# Altium footprint library Connectors.PcbLib: 22 footprints (part 2 of 2)
Each footprint in its own frame and in the unit in brackets; x right, y up, seen from the top. Pads: shape width x height; smd on the part's side, far side on the other; paste and mask are expansions set on the pad; w line width, h text height; cw(c..) or ccw(c..) is an arc to the next point about the centre after c.
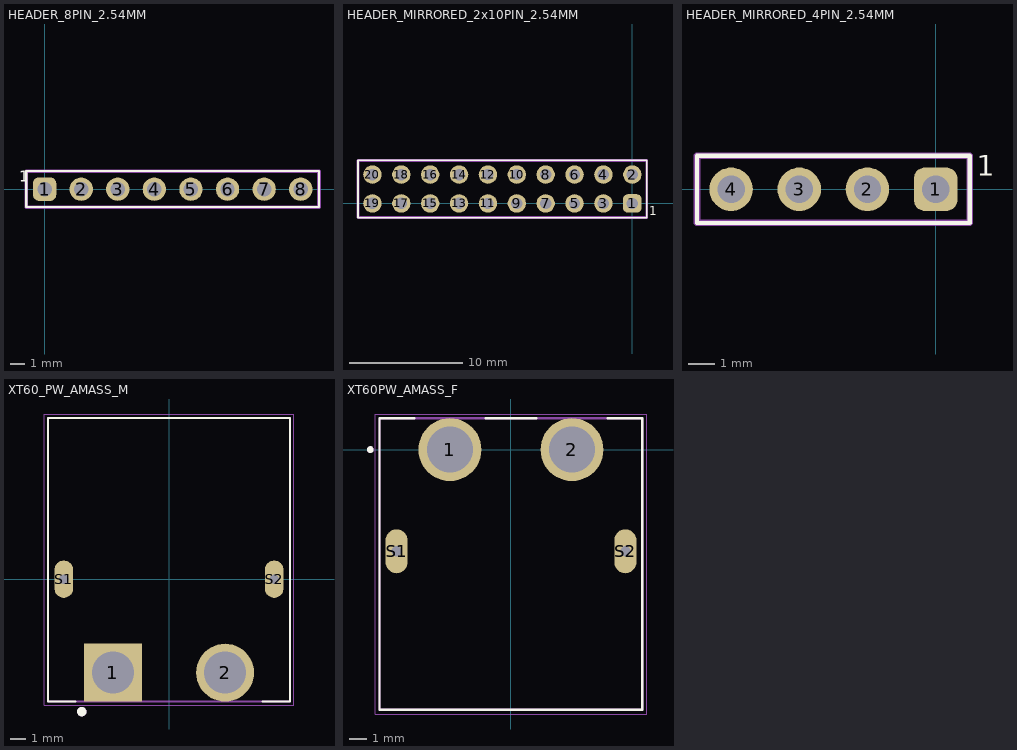
[diagram p1: the footprints below, top view; thin cyan lines are the x and y axes]

## HEADER_8PIN_2.54MM [mm]
pads (8):
  rrect50% 1.62x1.62 hole 1.02: 1(0,0)
  round 1.62 hole 1.02: 2(2.54,0) 3(5.08,0) 4(7.62,0)
  round 1.62 hole 1: 5(10.16,0) 6(12.7,0) 7(15.24,0) 8(17.78,0)
Top Overlay:
  lines w0.152: -1.27,-1.25 19.05,-1.25 19.05,1.25 -1.27,1.25 -1.27,-1.25
  text "1" at -1.778,0.508 h0.76
Mechanical 1:
  lines w0.254: -1.27,-1.25 19.05,-1.25 19.05,1.25 -1.27,1.25 -1.27,-1.25
3D body "c-534237-6-s-3d.stp": height 8.65, standoff -2.91, extent -1.27,-1.778 19.05,1.778

## HEADER_MIRRORED_2x10PIN_2.54MM [mm]
pads (20):
  rrect50% 1.62x1.62 hole 1: 1(0,0)
  round 1.62 hole 1: 2(0,2.54) 3(-2.54,0) 4(-2.54,2.54) 5(-5.08,0) 6(-5.08,2.54) 7(-7.62,0) 8(-7.62,2.54) 9(-10.16,0) 10(-10.16,2.54) 11(-12.7,0) 12(-12.7,2.54)
  round 1.62 hole 1.02: 13(-15.24,0) 14(-15.24,2.54) 15(-17.78,0) 16(-17.78,2.54) 17(-20.32,0) 18(-20.32,2.54) 19(-22.86,0) 20(-22.86,2.54)
Top Overlay:
  lines w0.152: -24.13,-1.25 1.27,-1.25 1.27,3.79 -24.13,3.79 -24.13,-1.25
  text "1" at 1.499,-1.041 h0.76
Mechanical 1:
  lines w0.254: -24.13,-1.25 1.27,-1.25 1.27,3.79 -24.13,3.79 -24.13,-1.25
3D body "XG8T-2031.STEP": height 7.01, standoff -2.99, extent -24.13,-1.25 1.27,3.75

## HEADER_MIRRORED_4PIN_2.54MM [mm]
pads (4):
  rrect50% 1.62x1.62 hole 1.02: 1(0,0)
  round 1.62 hole 1.02: 2(-2.54,0) 3(-5.08,0) 4(-7.62,0)
Top Overlay:
  lines w0.152: -8.89,-1.25 -8.89,1.25 1.27,1.25 1.27,-1.25 -8.89,-1.25
  text "1" at 1.524,0.508 h0.76
Mechanical 1:
  lines w0.254: -8.89,-1.25 -8.89,1.25 1.27,1.25 1.27,-1.25 -8.89,-1.25
3D body "PEC04SFAN.STEP": height 10.48, standoff -3.19, extent -8.89,-1.27 1.27,1.27

## PCBComponent_1 [mil]

## XT60_PW_AMASS_M [mm] "XT60 60A RIGHT ANGLE MALE"
pads (4):
  rect 3.716x3.716 hole 2.7: 1(-3.6,-6)
  round 3.716 hole 2.7: 2(3.6,-6)
  oval 1.2x2.4 hole 0.6 square: S1(-6.75,0) S2(6.75,0)
Top Overlay:
  circle w0.3: c-5.6,-8.5 r0.15
  lines w0.127: -6,-7.85 -7.75,-7.85 -7.75,10.35 7.75,10.35 7.75,-7.85 6,-7.85
Mechanical 13:
  circle w0.3: c-5.6,-8.5 r0.15
  lines w0.127: -7.75,-7.85 -7.75,10.35 7.75,10.35 7.75,-7.85 -7.75,-7.85
Mechanical 15:
  lines w0.05: -8,-8.1 8,-8.1 8,10.6 -8,10.6 -8,-8.1
3D body "XT60PW_RightAngle_M.STEP": height 8.52, standoff -2.43, extent -7.753,-7.874 7.747,10.326

## XT60PW_AMASS_F [mm] "XT60_AMASS_F"
pads (4):
  round 3.716 hole 2.7: 1(-3.6,0) 2(3.6,0)
  oval 1.3x2.6 hole 0.6 square: S1(-6.75,-6) S2(6.75,-6)
Top Overlay:
  circle w0.2: c-8.3,0 r0.1
  lines w0.127: -5.71,1.85 -7.75,1.85 -7.75,-15.35 7.75,-15.35 7.75,1.85 5.71,1.85 ; -1.49,1.85 1.49,1.85
Mechanical 13:
  circle w0.2: c-8.3,0 r0.1
  lines w0.127: -7.75,-15.35 7.75,-15.35 7.75,1.85 -7.75,1.85 -7.75,-15.35
Mechanical 15:
  lines w0.05: -8,-15.6 8,-15.6 8,2.1 -8,2.1 -8,-15.6
3D body "XT60PW_RightAngle_F.STEP": height 2.1, standoff -8.85, extent -7.75,-15.367 7.75,1.833